# Altium footprint library Battery.PcbLib: 2 footprints
Each footprint in its own frame and in the unit in brackets; x right, y up, seen from the top. Pads: shape width x height; smd on the part's side, far side on the other; paste and mask are expansions set on the pad; w line width, h text height; cw(c..) or ccw(c..) is an arc to the next point about the centre after c.
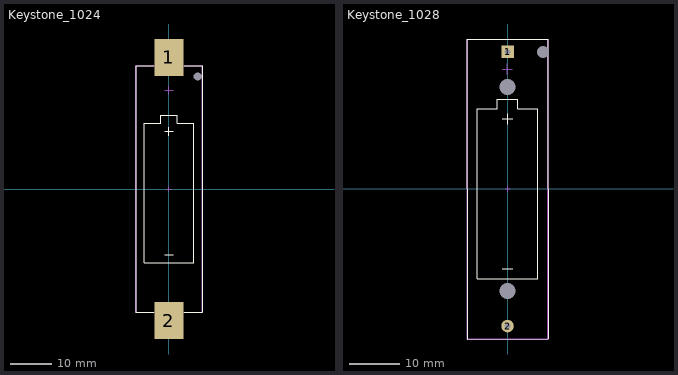
[diagram p0: the footprints below, top view; thin cyan lines are the x and y axes]

## Keystone_1024 [mm] "Keystone 1024 AA Battery tray SMT"
height 15
pads (3):
  rect 7x9 smd paste+0.05: 1(0,32) 2(0,-32)
  round 0 hole 2 unplated paste+0.05: M(7,27.4)
Top Overlay:
  lines w0.1: -3.7,-30 -8.1,-30 -8.1,30 -3.7,30 ; -1,-16 1,-16 ; -1,14 1,14 ; 0,13 0,15 ; 3.7,-30 8.1,-30 8.1,30 3.7,30 ; -6,-18 6,-18 6,16 2,16 2,18 -2,18 -2,16 -6,16 -6,-18
Top Assembly (Mech3):
  lines w0.1: -1.018,24 0.982,24 ; -0.018,23 -0.018,25 ; -8.1,-30 8.1,-30 8.1,30 -8.1,30 -8.1,-30
Top Courtyard:
  lines w0.1: -0.5,0 0.5,0 ; 0,-0.5 0,0.5 ; -8.1,-30 8.11,-30 8.11,30 -8.1,30 -8.1,-30
3D body "keystone-PN1024.STEP": height 14.86, standoff -1.57, extent -7.772,-34.4 7.772,34.459

## Keystone_1028 [mm] "Keystone 1028 AA Battery tray TH mount"
height 15
pads (5):
  rect 2.5x2.5 hole 1.2 unplated paste+0.05: 1(0,27.43)
  round 2.5 hole 1.2 unplated paste+0.05: 2(0,-27.43)
  round 0 hole 3.2 unplated paste+0.05: M(0,-20.445) M(0,20.445)
  round 0 hole 2.4 unplated paste+0.05: M(7.1,27.43)
Top Overlay:
  lines w0.1: -1,-16 1,-16 ; -1,14 1,14 ; 0,13 0,15 ; -8.1,-30 -8.1,30 8.1,30 8.1,-30 -8.1,-30 ; -6,-18 6,-18 6,16 2,16 2,18 -2,18 -2,16 -6,16 -6,-18
Top Assembly (Mech3):
  lines w0.1: -1.018,24 0.982,24 ; -0.018,23 -0.018,25 ; -8.1,-30 8.1,-30 8.1,30 -8.1,30 -8.1,-30
Top Courtyard:
  lines w0.1: -0.5,0 0.5,0 ; 0,-0.5 0,0.5 ; -8.1,-30 8.11,-30 8.11,30 -8.1,30 -8.1,-30
3D body "keystone-PN1028.STEP": height 15.25, standoff -3.55, extent -8.146,-29.971 8.11,29.973